# Altium footprint library misc.PcbLib: 19 footprints (part 2 of 2)
Each footprint in its own frame and in the unit in brackets; x right, y up, seen from the top. Pads: shape width x height; smd on the part's side, far side on the other; paste and mask are expansions set on the pad; w line width, h text height; cw(c..) or ccw(c..) is an arc to the next point about the centre after c.
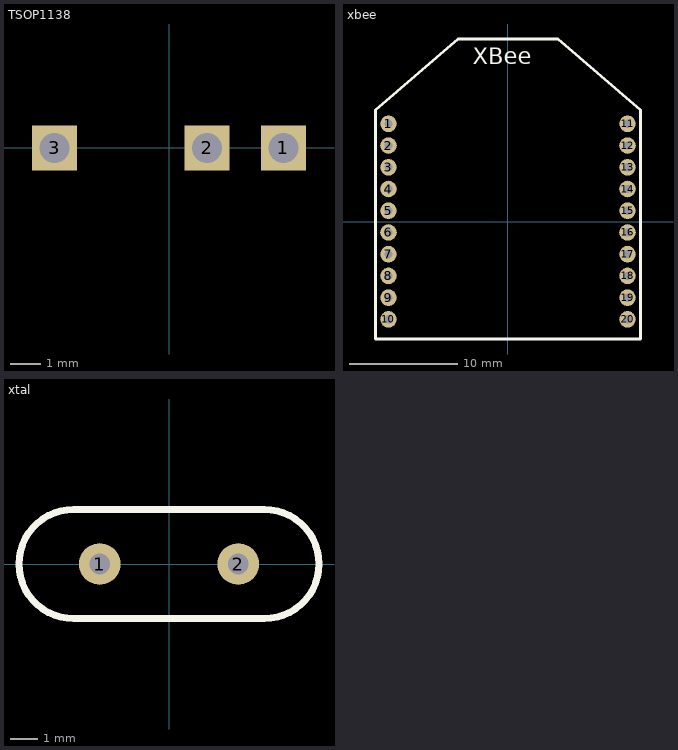
[diagram p1: the footprints below, top view; thin cyan lines are the x and y axes]

## TSOP1138 [mm]
pads (3):
  rect 1.5x1.5 hole 1: 1(3.81,0) 2(1.27,0) 3(-3.81,0)
Bottom Overlay:
  lines w0.254: -2.75,-2 ccw(c0,-2) 2.75,-2 ; -5,-2 -5,2 5,2 5,-2 -5,-2

## xbee [mil]
height 98.43
pads (20):
  round 60 hole 30: 1(-433.07,354.33) 2(-433.07,275.59) 3(-433.07,196.85) 4(-433.07,118.11) 5(-433.07,39.37) 6(-433.07,-39.37) 7(-433.07,-118.11) 8(-433.07,-196.85) 9(-433.07,-275.59) 10(-433.07,-354.33) 11(433.07,354.33) 12(433.07,275.59) 13(433.07,196.85) 14(433.07,118.11) 15(433.07,39.37) 16(433.07,-39.37) 17(433.07,-118.11) 18(433.07,-196.85) 19(433.07,-275.59) 20(433.07,-354.33)
Top Overlay:
  lines w10: -479.92,-425.39 479.92,-425.39 479.92,404.53 181.1,661.61 -181.1,661.61 -479.92,404.53 -479.92,-425.39
  text "XBee" at -127,571 h60

## xtal [mil]
pads (2):
  round 60 hole 30: 1(-100,0) 2(100,0)
Top Overlay:
  lines w10: -137.8,-78.74 cw(c-137.8,0) -137.8,78.74 137.8,78.74 cw(c137.8,0) 137.8,-78.74 -137.8,-78.74